# Altium schematic symbol library Mi_lib.SchLib: 16 symbols
Pins are listed as number, name and electrical type; pins without a type are passive.

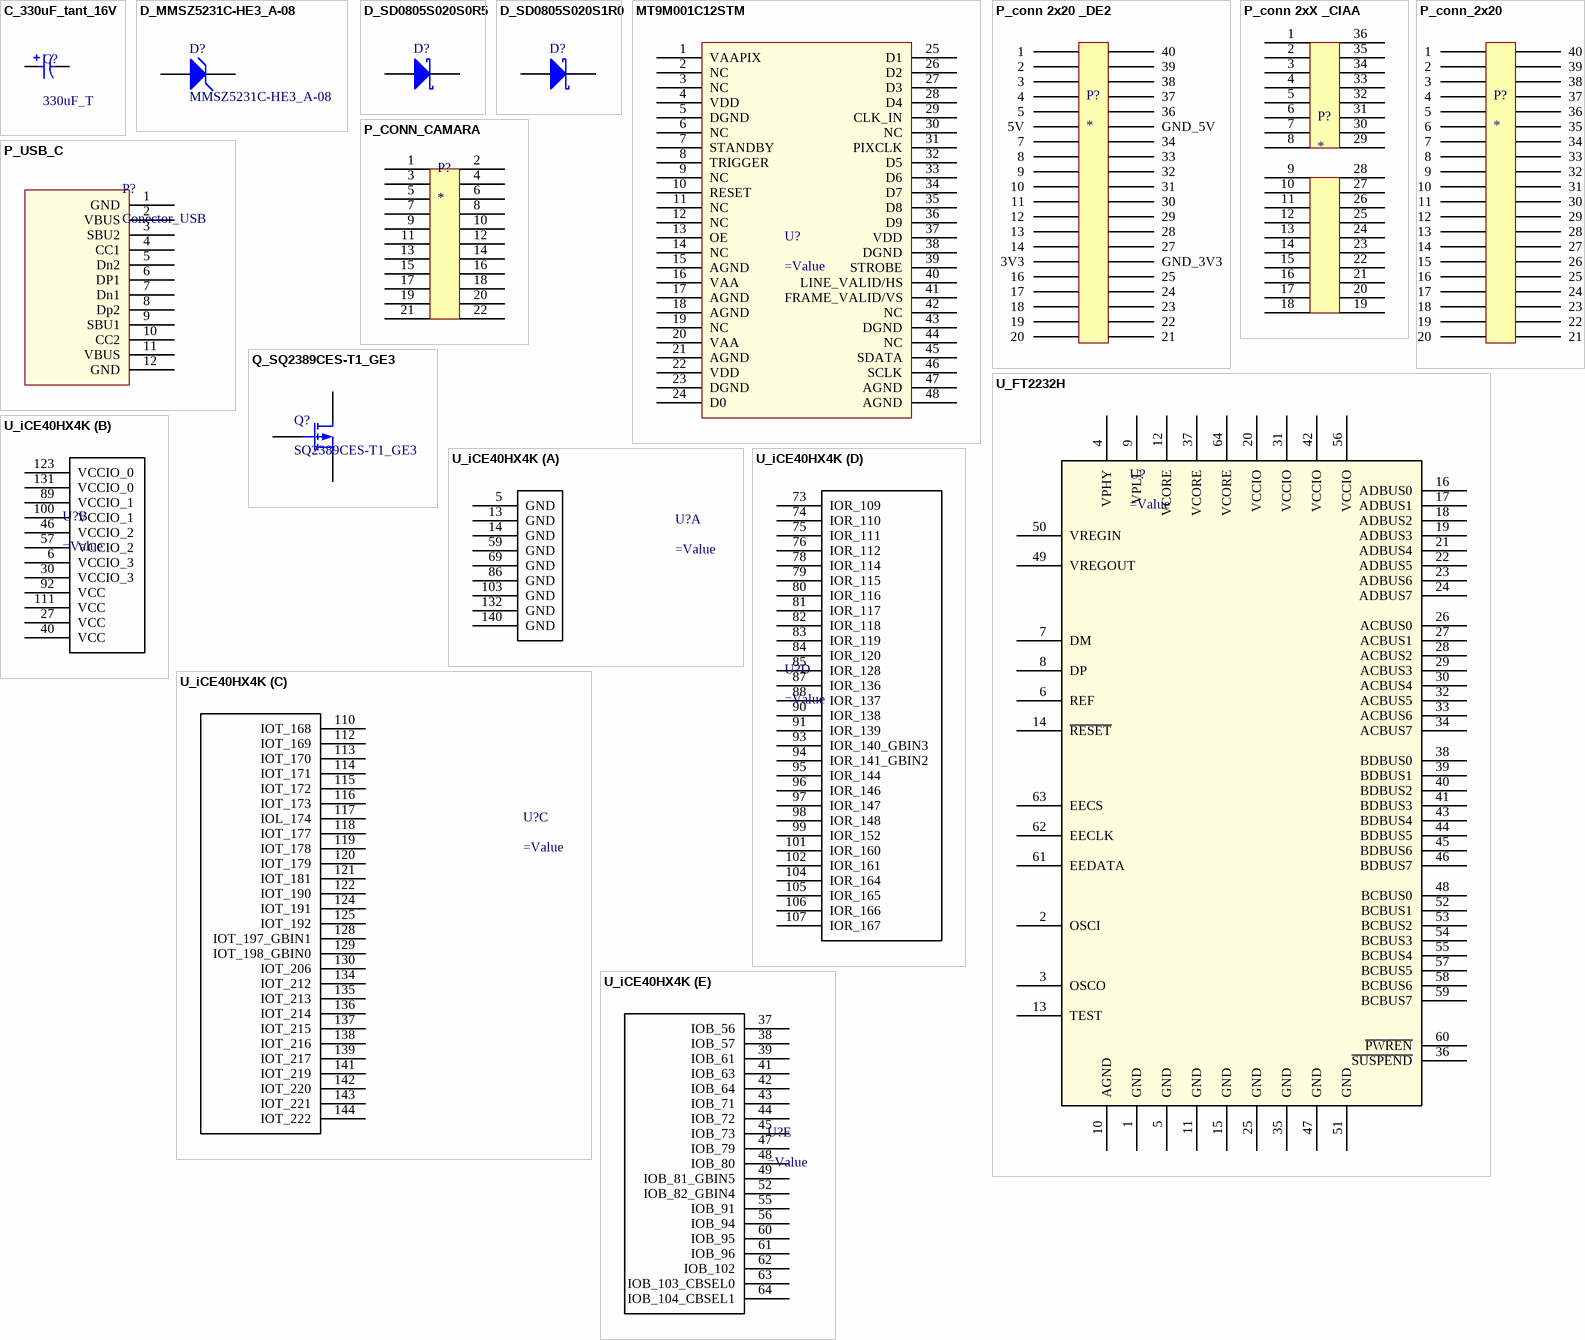
[diagram p0: symbols C_330uF_tant_16V to U_iCE40HX4K]

## C_330uF_tant_16V
designator C?, comment 330uF_T
Capacitor SMD 2917 Tant; Manufacturer: Vishay; Manufacturer Part Number: TMCP1A106MTRF; RoHS Compliant: Yes; RoHS: Yes; Category: Tantalum Capacitors; Stock 1: 7293; Pricing 1: 1=0,3, 10=0,152, 50=0,152, 100=0,098, 1000=0,082, 10000=0,067 (USD); Value: 330uF_T; Supplier 1: Mouser; Supplier Part Number 1: 581-TPME337K016R0050
footprint C_2917
pins: 1, 2

## D_MMSZ5231C-HE3_A-08
designator D?, comment MMSZ5231C-HE3_A-08
Diode SMD SOD-123 Zener 5V1; Manufacturer: Vishay Semiconductors; Manufacturer Part Number: MMSZ5226C-E3-08; Zener Voltage: 3.3V; Max Power Dissipation: 500mW; Impedance: 28R; Zener Current: 20mA; Voltage Tolerance: 2%; Max Reverse Leakage Current: 25uA; Mounting Technology: Surface Mount; Weight: 0.000363oz; Min Operating Temperature: -55°C; Max Operating Temperature: 150°C; Packaging: Tape and Reel; Package Quantity: 3000; Power Dissipation: 500mW; Tolerance: 2%; Series: Automotive, AEC-Q101; RoHS Compliant: Yes; ComponentLink1URL: https://www.vishay.com/docs/86344/mmsz5225_to_mmsz5267.pdf; ComponentLink1Description: Datasheet; RoHS: Yes; Category: Zener Diodes; Stock 1: 14347; Pricing 1: 1=0,29, 10=0,198, 50=0,198, 100=0,089, 1000=0,062, 10000=0,041 (USD); Value: MMSZ5231C-HE3_A-08; Supplier 1: Mouser; Supplier Part Number 1: 78-MMSZ5231CHE3_A-08
footprint D_SOD-123 (SOD-123; 2 Leads; Body 2.7 x 1.6 mm, (LxW))
pins: 1 K, 2 A

## D_SD0805S020S0R5
designator D?, comment SD0805S020S0R5  (value not drawn)
Diode SMD D_SD0805S020S0R5; Manufacturer: Diodes; Manufacturer Part Number: B550C-13-F; Max Reverse Current: 500uA; Forward Current: 5A; Max Repetitive Reverse Voltage (Vrrm): 50V; Peak Non-Repetitive Surge Current: 100A; Polarity: Standard; Forward Voltage: 700mV; Mounting Technology: Surface Mount; Case/Package: SMC; Pins: 2; Weight: 0.007408oz; Contact Plating: Tin,Matte; Min Operating Temperature: -55°C; Max Operating Temperature: 125°C; Package Quantity: 3000; Packaging: Tape and Reel; Current Rating: 5A; Output Current: 5A; Series: -; Average Rectified Current: 5A; Max Forward Surge Current (Ifsm): 100A; Termination: SMD/SMT; Voltage Rating (DC): 50V; Max Reverse Voltage (DC): 50V; Length: 7.11mm; Width: 6.22mm; Height: 2.5mm; Radiation Hardening: No; Lead Free: Lead Free; RoHS Compliant: Yes; Reach SVHC Compliant: No; RoHS: Yes; Category: Rectifier Diodes; Stock 1: 65197; Pricing 1: 1=0,56, 10=0,476, 100=0,3309, 500=0,25834, 1000=0,20998 (USD); Value: SD0805S020S0R5; Supplier 1: Digikey; Supplier Part Number 1: 478-7799-1-ND
footprint D_SOD-123 (SOD-123; 2 Leads; Body 2.7 x 1.6 mm, (LxW))
pins: 1 K, 2 A

## D_SD0805S020S1R0
designator D?, comment B550C-13-F  (value not drawn)
Diode SMD 0805 1A schottky; Manufacturer: Diodes; Max Reverse Current: 500uA; Forward Current: 5A; Max Repetitive Reverse Voltage (Vrrm): 50V; Peak Non-Repetitive Surge Current: 100A; Polarity: Standard; Forward Voltage: 700mV; Mounting Technology: Surface Mount; Case/Package: SMC; Pins: 2; Weight: 0.007408oz; Contact Plating: Tin,Matte; Min Operating Temperature: -55°C; Max Operating Temperature: 125°C; Package Quantity: 3000; Packaging: Tape and Reel; Current Rating: 5A; Output Current: 5A; Series: -; Average Rectified Current: 5A; Max Forward Surge Current (Ifsm): 100A; Termination: SMD/SMT; Voltage Rating (DC): 50V; Max Reverse Voltage (DC): 50V; Length: 7.11mm; Width: 6.22mm; Height: 2.5mm; Radiation Hardening: No; Lead Free: Lead Free; RoHS Compliant: Yes; Reach SVHC Compliant: No; ComponentLink1URL: https://datasheet.ciiva.com/30479/0900766b8104afce-30479368.pdf?src-supplier=Rs; ComponentLink1Description: https://datasheet.ciiva.com/30479/0900766b8104afce-30479368.pdf?src-supplier=Rs; ComponentLink2URL: https://datasheet.ciiva.com/26949/getdatasheetpartid-307767-26949364.pdf?src-supplier=Verical; ComponentLink2Description: https://datasheet.ciiva.com/26949/getdatasheetpartid-307767-26949364.pdf?src-supplier=Verical; ComponentLink3URL: https://datasheet.ciiva.com/39121/1538953-39121533.pdf?src-supplier=Jameco; ComponentLink3Description: https://datasheet.ciiva.com/39121/1538953-39121533.pdf?src-supplier=Jameco; ComponentLink4URL: https://datasheet.ciiva.com/8303/ds13012-8303115.pdf?src-supplier=Avnet; ComponentLink4Description: https://datasheet.ciiva.com/8303/ds13012-8303115.pdf?src-supplier=Avnet; ComponentLink5URL: https://datasheet.ciiva.com/8303/ds13012-8303191.pdf?src-supplier=Avnet; ComponentLink5Description: https://datasheet.ciiva.com/8303/ds13012-8303191.pdf?src-supplier=Avnet; ComponentLink6URL: https://datasheet.ciiva.com/1177/ds13012-1177531.pdf?src-supplier=Element14; ComponentLink6Description: https://datasheet.ciiva.com/1177/ds13012-1177531.pdf?src-supplier=Element14; Manufacturer Part Number: B550C-13-F; RoHS: Yes; Category: Rectifier Diodes; Stock 1: 65197; Pricing 1: 1=0,56, 10=0,476, 100=0,3309, 500=0,25834, 1000=0,20998 (USD); Value: B550C-13-F; Supplier 1: Avnet; Supplier Part Number 1: SD0805S020S1R0
footprint R_0805
pins: 1 K, 2 A

## MT9M001C12STM
designator U?
SENSOR 1/2 PULGADA 1 MEGAPIXEL; Supplier 1: Newark; Supplier Part Number 1: 30AC9943; Supplier 2: Farnell; Supplier Part Number 2: 3613986; ComponentLink1Description: DATASHEET; ComponentLink1URL: https://github.com/Fresita-codificadora/Proyecto_Final_DOME/blob/main/datasheet/HOJA_DE_DATOS_IMAGER_mt9m001_USADO_CON_FPGA.pdf
footprint U_CLCC48_SOCKET
pins: 1 VAAPIX, 2 NC, 3 NC, 4 VDD, 5 DGND, 6 NC, 7 STANDBY, 8 TRIGGER, 9 NC, 10 RESET, 11 NC, 12 NC, 13 OE, 14 NC, 15 AGND, 16 VAA, 17 AGND, 18 AGND, 19 NC, 20 VAA, 21 AGND, 22 VDD, 23 DGND, 24 D0, 25 D1, 26 D2, 27 D3, 28 D4, 29 CLK_IN, 30 NC, 31 PIXCLK, 32 D5, 33 D6, 34 D7, 35 D8, 36 D9, 37 VDD, 38 DGND, 39 STROBE, 40 LINE_VALID/HS, 41 FRAME_VALID/VS, 42 NC, 43 DGND, 44 NC, 45 SDATA, 46 SCLK, 47 AGND, 48 AGND

## P_conn 2x20 _DE2
designator P?
footprint P_conn_DE2
pins: 1, 2, 3, 4, 5, 6 5V, 7, 8, 9, 10, 11, 12, 13, 14, 15 3V3, 16, 17, 18, 19, 20, 21, 22, 23, 24, 25, 26 GND_3V3, 27, 28, 29, 30, 31, 32, 33, 34, 35 GND_5V, 36, 37, 38, 39, 40

## P_conn 2xX _CIAA
designator P?
pins: 1, 2, 3, 4, 5, 6, 7, 8, 9, 10, 11, 12, 13, 14, 15, 16, 17, 18, 19, 20, 21, 22, 23, 24, 25, 26, 27 50, 28 49, 29 48, 30 47, 31 46, 32 45, 33 44, 34 43, 35 42, 36 41

## P_conn_2x20
designator P?
footprint P_conn_2x20
pins: 1, 2, 3, 4, 5, 6, 7, 8, 9, 10, 11, 12, 13, 14, 15, 16, 17, 18, 19, 20, 21, 22, 23, 24, 25, 26, 27, 28, 29, 30, 31, 32, 33, 34, 35, 36, 37, 38, 39, 40

## P_CONN_CAMARA
designator P?
pins: 1 59, 2 59, 3 60, 4 60, 5 61, 6 61, 7 62, 8 62, 9 64, 10 64, 11 63, 12 63, 13 59, 14 59, 15 60, 16 60, 17 61, 18 61, 19 62, 20 62, 21 64, 22 64

## P_USB_C
designator P?, comment Conector_USB
Conector USB tip C basico; Value: Conector_USB; Supplier 1: Mouser; Supplier Part Number 1: 179-UJ20CHGSMT1P16TR
footprint P_USB_C
pins: 1 GND, 2 VBUS, 3 SBU2, 4 CC1, 5 Dn2, 6 DP1, 7 Dn1, 8 Dp2, 9 SBU1, 10 CC2, 11 VBUS, 12 GND

## Q_SQ2389CES-T1_GE3
designator Q?, comment SQ2389CES-T1_GE3
Value: SQ2389CES-T1_GE3; Supplier 1: Mouser; Supplier Part Number 1: 78-SQ2389CES-T1_GE3
footprint Q_SOT-23
pins: 1 G, 2 S, 3 D

## U_FT2232H
designator U?
Supplier 1: Digikey; Supplier Part Number 1: 768-1347-ND; Supplier 2: Arrow Electronics; Supplier Part Number 2: FT2232D-TRAY
footprint U_TQFP-64
pins: 1 GND, 2 OSCI, 3 OSCO, 4 VPHY, 5 GND, 6 REF, 7 DM, 8 DP, 9 VPLL, 10 AGND, 11 GND, 12 VCORE, 13 TEST, 14 ~{RESET}, 15 GND, 16 ADBUS0, 17 ADBUS1, 18 ADBUS2, 19 ADBUS3, 20 VCCIO, 21 ADBUS4, 22 ADBUS5, 23 ADBUS6, 24 ADBUS7, 25 GND, 26 ACBUS0, 27 ACBUS1, 28 ACBUS2, 29 ACBUS3, 30 ACBUS4, 31 VCCIO, 32 ACBUS5, 33 ACBUS6, 34 ACBUS7, 35 GND, 36 ~{SUSPEND}, 37 VCORE, 38 BDBUS0, 39 BDBUS1, 40 BDBUS2, 41 BDBUS3, 42 VCCIO, 43 BDBUS4, 44 BDBUS5, 45 BDBUS6, 46 BDBUS7, 47 GND, 48 BCBUS0, 49 VREGOUT, 50 VREGIN, 51 GND, 52 BCBUS1, 53 BCBUS2, 54 BCBUS3, 55 BCBUS4, 56 VCCIO, 57 BCBUS5, 58 BCBUS6, 59 BCBUS7, 60 ~{PWREN}, 61 EEDATA, 62 EECLK, 63 EECS, 64 VCORE

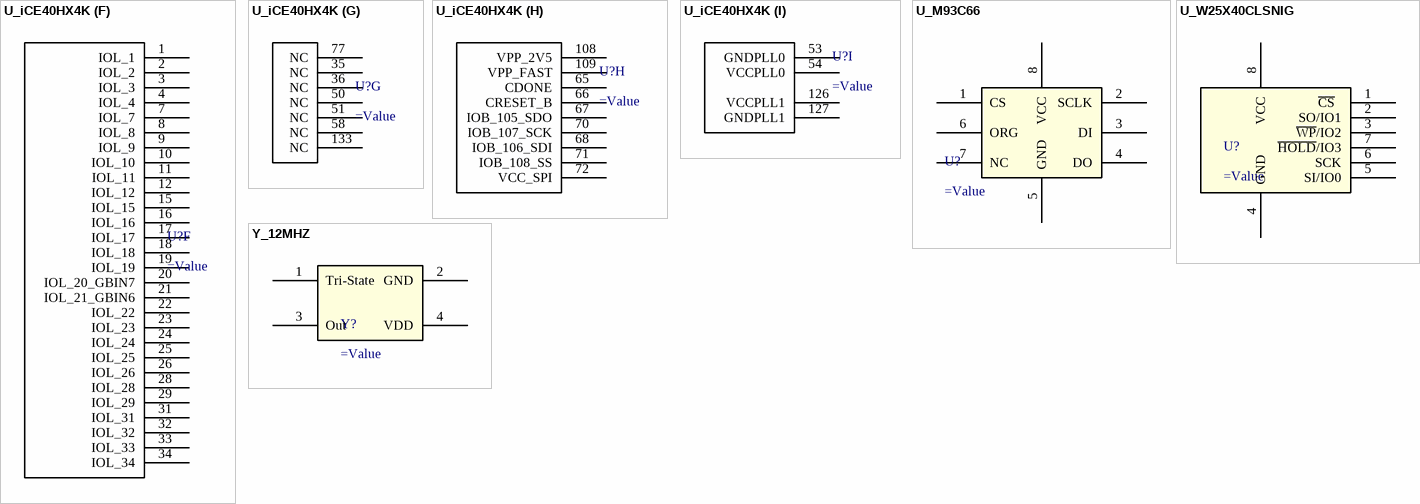
[diagram p1: symbols U_iCE40HX4K to Y_12MHZ]

## U_iCE40HX4K
designator U?
Supplier 1: Digikey; Supplier Part Number 1: 220-1572-ND
footprint U_TQFP-144
part A pins: 5 GND, 13 GND, 14 GND, 59 GND, 69 GND, 86 GND, 103 GND, 132 GND, 140 GND
part B pins: 6 VCCIO_3, 27 VCC, 30 VCCIO_3, 40 VCC, 46 VCCIO_2, 57 VCCIO_2, 89 VCCIO_1, 92 VCC, 100 VCCIO_1, 111 VCC, 123 VCCIO_0, 131 VCCIO_0
part C pins: 110 IOT_168, 112 IOT_169, 113 IOT_170, 114 IOT_171, 115 IOT_172, 116 IOT_173, 117 IOL_174, 118 IOT_177, 119 IOT_178, 120 IOT_179, 121 IOT_181, 122 IOT_190, 124 IOT_191, 125 IOT_192, 128 IOT_197_GBIN1, 129 IOT_198_GBIN0, 130 IOT_206, 134 IOT_212, 135 IOT_213, 136 IOT_214, 137 IOT_215, 138 IOT_216, 139 IOT_217, 141 IOT_219, 142 IOT_220, 143 IOT_221, 144 IOT_222
part D pins: 73 IOR_109, 74 IOR_110, 75 IOR_111, 76 IOR_112, 78 IOR_114, 79 IOR_115, 80 IOR_116, 81 IOR_117, 82 IOR_118, 83 IOR_119, 84 IOR_120, 85 IOR_128, 87 IOR_136, 88 IOR_137, 90 IOR_138, 91 IOR_139, 93 IOR_140_GBIN3, 94 IOR_141_GBIN2, 95 IOR_144, 96 IOR_146, 97 IOR_147, 98 IOR_148, 99 IOR_152, 101 IOR_160, 102 IOR_161, 104 IOR_164, 105 IOR_165, 106 IOR_166, 107 IOR_167
part E pins: 37 IOB_56, 38 IOB_57, 39 IOB_61, 41 IOB_63, 42 IOB_64, 43 IOB_71, 44 IOB_72, 45 IOB_73, 47 IOB_79, 48 IOB_80, 49 IOB_81_GBIN5, 52 IOB_82_GBIN4, 55 IOB_91, 56 IOB_94, 60 IOB_95, 61 IOB_96, 62 IOB_102, 63 IOB_103_CBSEL0, 64 IOB_104_CBSEL1
part F pins: 1 IOL_1, 2 IOL_2, 3 IOL_3, 4 IOL_4, 7 IOL_7, 8 IOL_8, 9 IOL_9, 10 IOL_10, 11 IOL_11, 12 IOL_12, 15 IOL_15, 16 IOL_16, 17 IOL_17, 18 IOL_18, 19 IOL_19, 20 IOL_20_GBIN7, 21 IOL_21_GBIN6, 22 IOL_22, 23 IOL_23, 24 IOL_24, 25 IOL_25, 26 IOL_26, 28 IOL_28, 29 IOL_29, 31 IOL_31, 32 IOL_32, 33 IOL_33, 34 IOL_34
part G pins: 35 NC, 36 NC, 50 NC, 51 NC, 58 NC, 77 NC, 133 NC
part H pins: 65 CDONE, 66 CRESET_B, 67 IOB_105_SDO, 68 IOB_106_SDI, 70 IOB_107_SCK, 71 IOB_108_SS, 72 VCC_SPI, 108 VPP_2V5, 109 VPP_FAST
part I pins: 53 GNDPLL0, 54 VCCPLL0, 126 VCCPLL1, 127 GNDPLL1

## U_M93C66
designator U?
Supplier 1: Arrow Electronics; Supplier Part Number 1: M93C66-WMN6TP
footprint U_SO-8 (SOC, 8-Leads, Body 8x5.3mm, Pitch 1.27mm, IPC Low Density)
pins: 1 CS, 2 SCLK, 3 DI, 4 DO, 5 GND, 6 ORG, 7 NC, 8 VCC

## U_W25X40CLSNIG
designator U?
Supplier 1: Digikey; Supplier Part Number 1: W25X40CLSNIG-ND
footprint U_SOIC-8_2 (SOIC, 8-Leads, Body 4.9x3.9mm, Pitch 1.27mm, IPC Low Density)
pins: 1 ~{CS}  , 2 SO/IO1, 3 ~{WP}/IO2, 4 GND, 5 SI/IO0, 6 SCK, 7 ~{HOLD}/IO3, 8 VCC

## Y_12MHZ
designator Y?
Supplier 1: Digikey; Supplier Part Number 1: XC2882CT-ND
footprint Y_SMD-XTAL-12MHz
pins: 1 Tri-State, 2 GND, 3 Out, 4 VDD